# EAGLE library part EPM3064ATC44-10 (library EPM3064ATC44-10)
Programmable Logic Device Family Check availability <https://pricing.snapeda.com/parts/EPM3064ATC44-10/Intel/view-part?ref=eda>
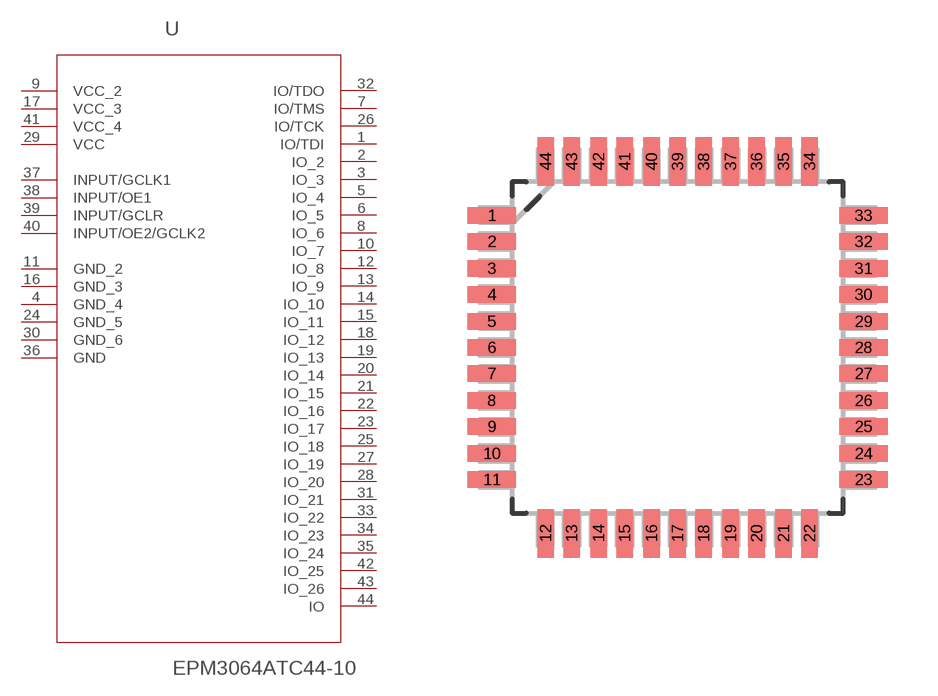
[diagram p0: symbol with the pads of QFP80P1200X1200X120-44N; footprint QFP80P1200X1200X120-44N]

Designator prefix -

## EPM3064ATC44-10 (Availability: In Stock; Description: EE PLD, 10NS, 64-CELL, CMOS, PQF; MF: Intel; MP: EPM3064ATC44-10; Package: TQFP-44 Intel; Price: None; Purchase-URL: https://pricing.snapeda.com/search/part/EPM3064ATC44-10/?ref=eda)  [QFP80P1200X1200X120-44N]
1  IO/TDI
2  IO_2
3  IO_3
4  GND_4  pas
5  IO_4
6  IO_5
7  IO/TMS
8  IO_6
9  VCC_2  pwr
10  IO_7
11  GND_2  pas
12  IO_8
13  IO_9
14  IO_10
15  IO_11
16  GND_3  pas
17  VCC_3  pwr
18  IO_12
19  IO_13
20  IO_14
21  IO_15
22  IO_16
23  IO_17
24  GND_5  pas
25  IO_18
26  IO/TCK
27  IO_19
28  IO_20
29  VCC  pwr
30  GND_6  pas
31  IO_21
32  IO/TDO
33  IO_22
34  IO_23
35  IO_24
36  GND  pas
37  INPUT/GCLK1  in
38  INPUT/OE1  in
39  INPUT/GCLR  in
40  INPUT/OE2/GCLK2  in
41  VCC_4  pwr
42  IO_25
43  IO_26
44  IO

## Footprint QFP80P1200X1200X120-44N (pad centres in mm)
smd 1.473 x 0.508: 1 -5.613,3.988; 2 -5.613,3.2; 3 -5.613,2.388; 4 -5.613,1.6; 5 -5.613,0.787; 6 -5.613,0; 7 -5.613,-0.787; 8 -5.613,-1.6; 9 -5.613,-2.388; 10 -5.613,-3.2; 11 -5.613,-3.988; 23 5.613,-3.988; 24 5.613,-3.2; 25 5.613,-2.388; 26 5.613,-1.6; 27 5.613,-0.787; 28 5.613,0; 29 5.613,0.787; 30 5.613,1.6; 31 5.613,2.388; 32 5.613,3.2; 33 5.613,3.988
smd 0.508 x 1.473: 12 -3.988,-5.613; 13 -3.2,-5.613; 14 -2.388,-5.613; 15 -1.6,-5.613; 16 -0.787,-5.613; 17 0,-5.613; 18 0.787,-5.613; 19 1.6,-5.613; 20 2.388,-5.613; 21 3.2,-5.613; 22 3.988,-5.613; 34 3.988,5.613; 35 3.2,5.613; 36 2.388,5.613; 37 1.6,5.613; 38 0.787,5.613; 39 0,5.613; 40 -0.787,5.613; 41 -1.6,5.613; 42 -2.388,5.613; 43 -3.2,5.613; 44 -3.988,5.613